# EAGLE library part CD4029BEE4 (library CD4029BEE4)
CD4029BEE4, 4-stage Decade and Binary Counter Up/Down Counter, Bi-Directional, 3 18 V, 16-Pin PDIP Source: Datasheet <http://www.ti.com/lit/ds/symlink/cd4029b.pdf>
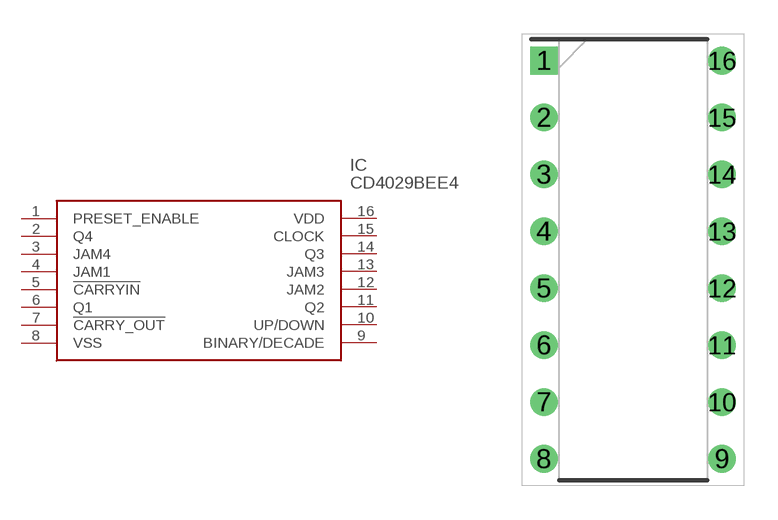
[diagram p0: symbol with the pads of DIP794W53P254L1930H508Q16N; footprint DIP794W53P254L1930H508Q16N]

Designator prefix IC

## CD4029BEE4 (Description: CD4029BEE4, 4-stage Decade and Binary Counter Up/Down Counter, Bi-Directional, 3 18 V, 16-Pin PDIP; Height: 5.08mm; Manufacturer_Name: Texas Instruments; Manufacturer_Part_Number: CD4029BEE4; Mouser_Part_Number: 595-CD4029BEE4; Mouser_Price-Stock: https://www.mouser.co.uk/ProductDetail/Texas-Instruments/CD4029BEE4?qs=LU5rZWrBGo0epKDtktqo2w%3D%3D)  [DIP794W53P254L1930H508Q16N]
1  PRESET_ENABLE
2  Q4
3  JAM4
4  JAM1
5  !CARRYIN
6  Q1
7  !CARRY_OUT
8  VSS
9  BINARY/DECADE
10  UP/DOWN
11  Q2
12  JAM2
13  JAM3
14  Q3
15  CLOCK
16  VDD

## Footprint DIP794W53P254L1930H508Q16N (pad centres in mm)
16 pdip n
drill 0.73 pad 1.13 square: 1 -3.97,8.89
drill 0.73 pad 1.13: 2 -3.97,6.35; 3 -3.97,3.81; 4 -3.97,1.27; 5 -3.97,-1.27; 6 -3.97,-3.81; 7 -3.97,-6.35; 8 -3.97,-8.89; 9 3.97,-8.89; 10 3.97,-6.35; 11 3.97,-3.81; 12 3.97,-1.27; 13 3.97,1.27; 14 3.97,3.81; 15 3.97,6.35; 16 3.97,8.89